# Altium integrated library Microchip Mixed Signal.IntLib: 1399 symbols (part 34 of 39)
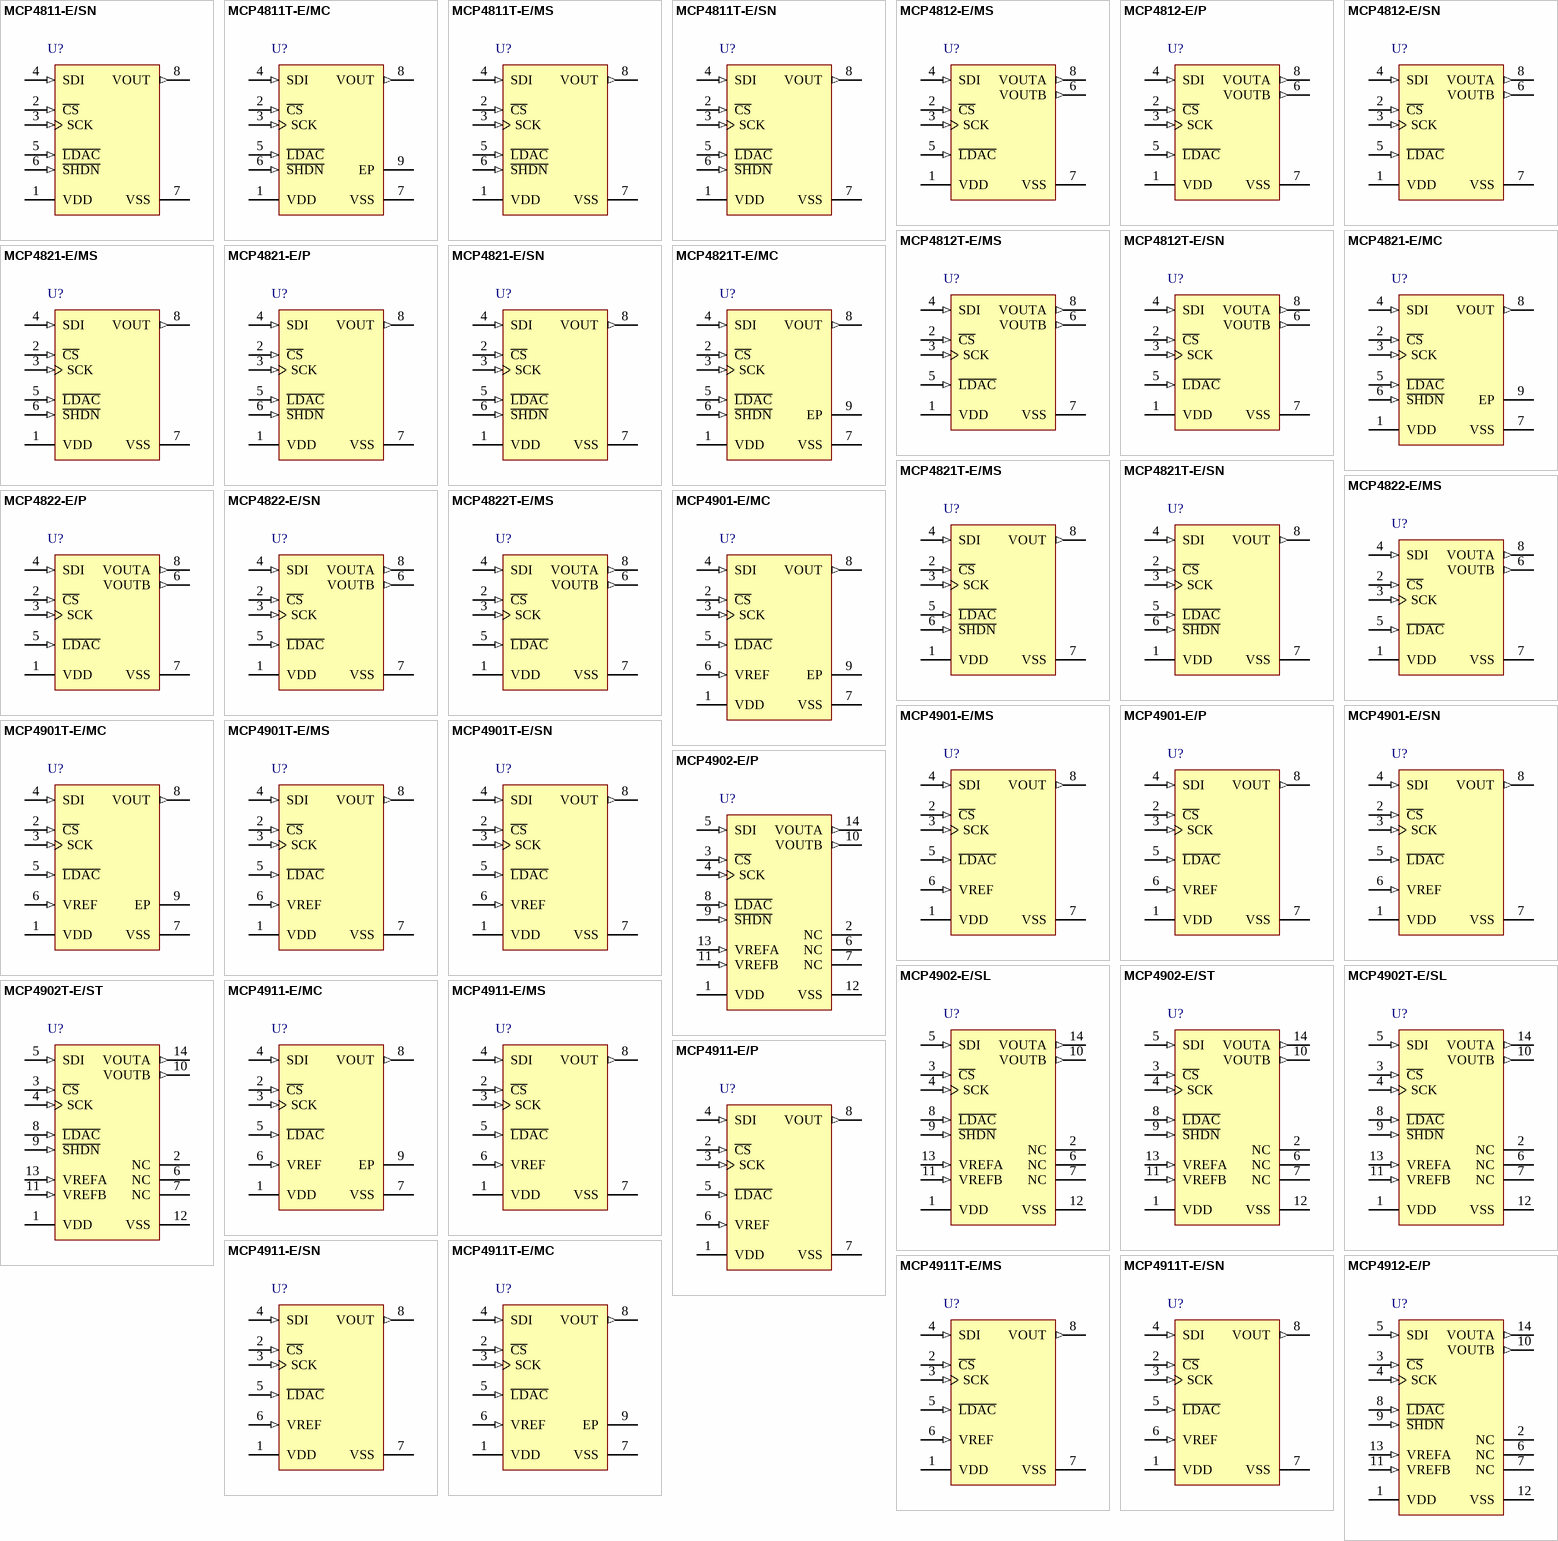
[diagram p77: symbols MCP4811-E/SN to MCP4912-E/P]

## MCP4911T-E/SN
designator U?
10-Bit DAC with SPI Interface, 8-Pin SOIC 150mil, Extended Temperature, Tape and Reel; Manufacturer: Microchip; PartNumber: MCP4911T-E/SN; DatasheetVersion: revA, Apr-2010; PackageVersion: revBB, Aug-2009; PackageReference: SOIC-SN8; PackageDescription: 8-Lead Plastic Small Outline (SN) - Narrow, 3.90mm Body [SOIC]; Supplier 1: Digi-Key; Supplier Part Number 1: MCP4911T-E/SN-ND; Supplier 2: Mouser; Supplier Part Number 2: 579-MCP4911T-E/SN; Mounting Technology: Surface Mount; Code_JEDEC: MS-012; Code_IPC: SOIC127P600-8; ComponentLink1Description: Manufacturer URL; ComponentLink1URL: http://www.microchip.com/; ComponentLink2Description: Datasheet; ComponentLink2URL: http://ww1.microchip.com/downloads/en/DeviceDoc/22248a.pdf; ComponentLink3Description: Package Specification; ComponentLink3URL: http://www.microchip.com/stellent/groups/techpub_sg/documents/packagingspec/en012702.pdf
footprint SOIC-SN8_N (SOIC, 8-Leads, Body 4.9x3.8mm, Pitch 1.27mm, IPC Medium Density)
footprint SOIC-SN8_L (SOIC, 8-Leads, Body 4.9x3.8mm, Pitch 1.27mm, IPC High Density)
footprint SOIC-SN8_M (SOIC, 8-Leads, Body 4.9x3.8mm, Pitch 1.27mm, IPC Low Density)
pins: 1 VDD (power), 2 ~{CS} (in), 3 SCK (in), 4 SDI (in), 5 ~{LDAC} (in), 6 VREF (in), 7 VSS (power), 8 VOUT (out)

## MCP4912-E/P
designator U?
10-Bit DAC with SPI Interface, 14-Pin PDIP, Extended Temperature; Manufacturer: Microchip; PartNumber: MCP4912-E/P; DatasheetVersion: revA, Apr-2010; PackageVersion: revBB, Aug-2009; PackageReference: PDIP300-P14; PackageDescription: 14-Lead Plastic Dual In-Line (P) - 300 mil Body [PDIP]; Supplier 1: Digi-Key; Supplier Part Number 1: MCP4912-E/P-ND; Supplier 2: Farnell; Supplier Part Number 2: 1815951; Supplier 3: Newark; Supplier Part Number 3: 53R0107; Supplier 4: Mouser; Supplier Part Number 4: 579-MCP4912-E/P; Mounting Technology: Through Hole; ComponentLink1Description: Manufacturer URL; ComponentLink1URL: http://www.microchip.com/; ComponentLink2Description: Datasheet; ComponentLink2URL: http://ww1.microchip.com/downloads/en/DeviceDoc/22250A.pdf; ComponentLink3Description: Package Specification; ComponentLink3URL: http://www.microchip.com/stellent/groups/techpub_sg/documents/packagingspec/en012702.pdf
footprint PDIP300-P14 (DIP, 14-Leads, Row Spacing 7.62mm, Pitch 2.54mm, Body 19.2x6.6mm)
pins: 1 VDD (power), 2 NC, 3 ~{CS} (in), 4 SCK (in), 5 SDI (in), 6 NC, 7 NC, 8 ~{LDAC} (in), 9 ~{SHDN} (in), 10 VOUTB (out), 11 VREFB (in), 12 VSS (power), 13 VREFA (in), 14 VOUTA (out)

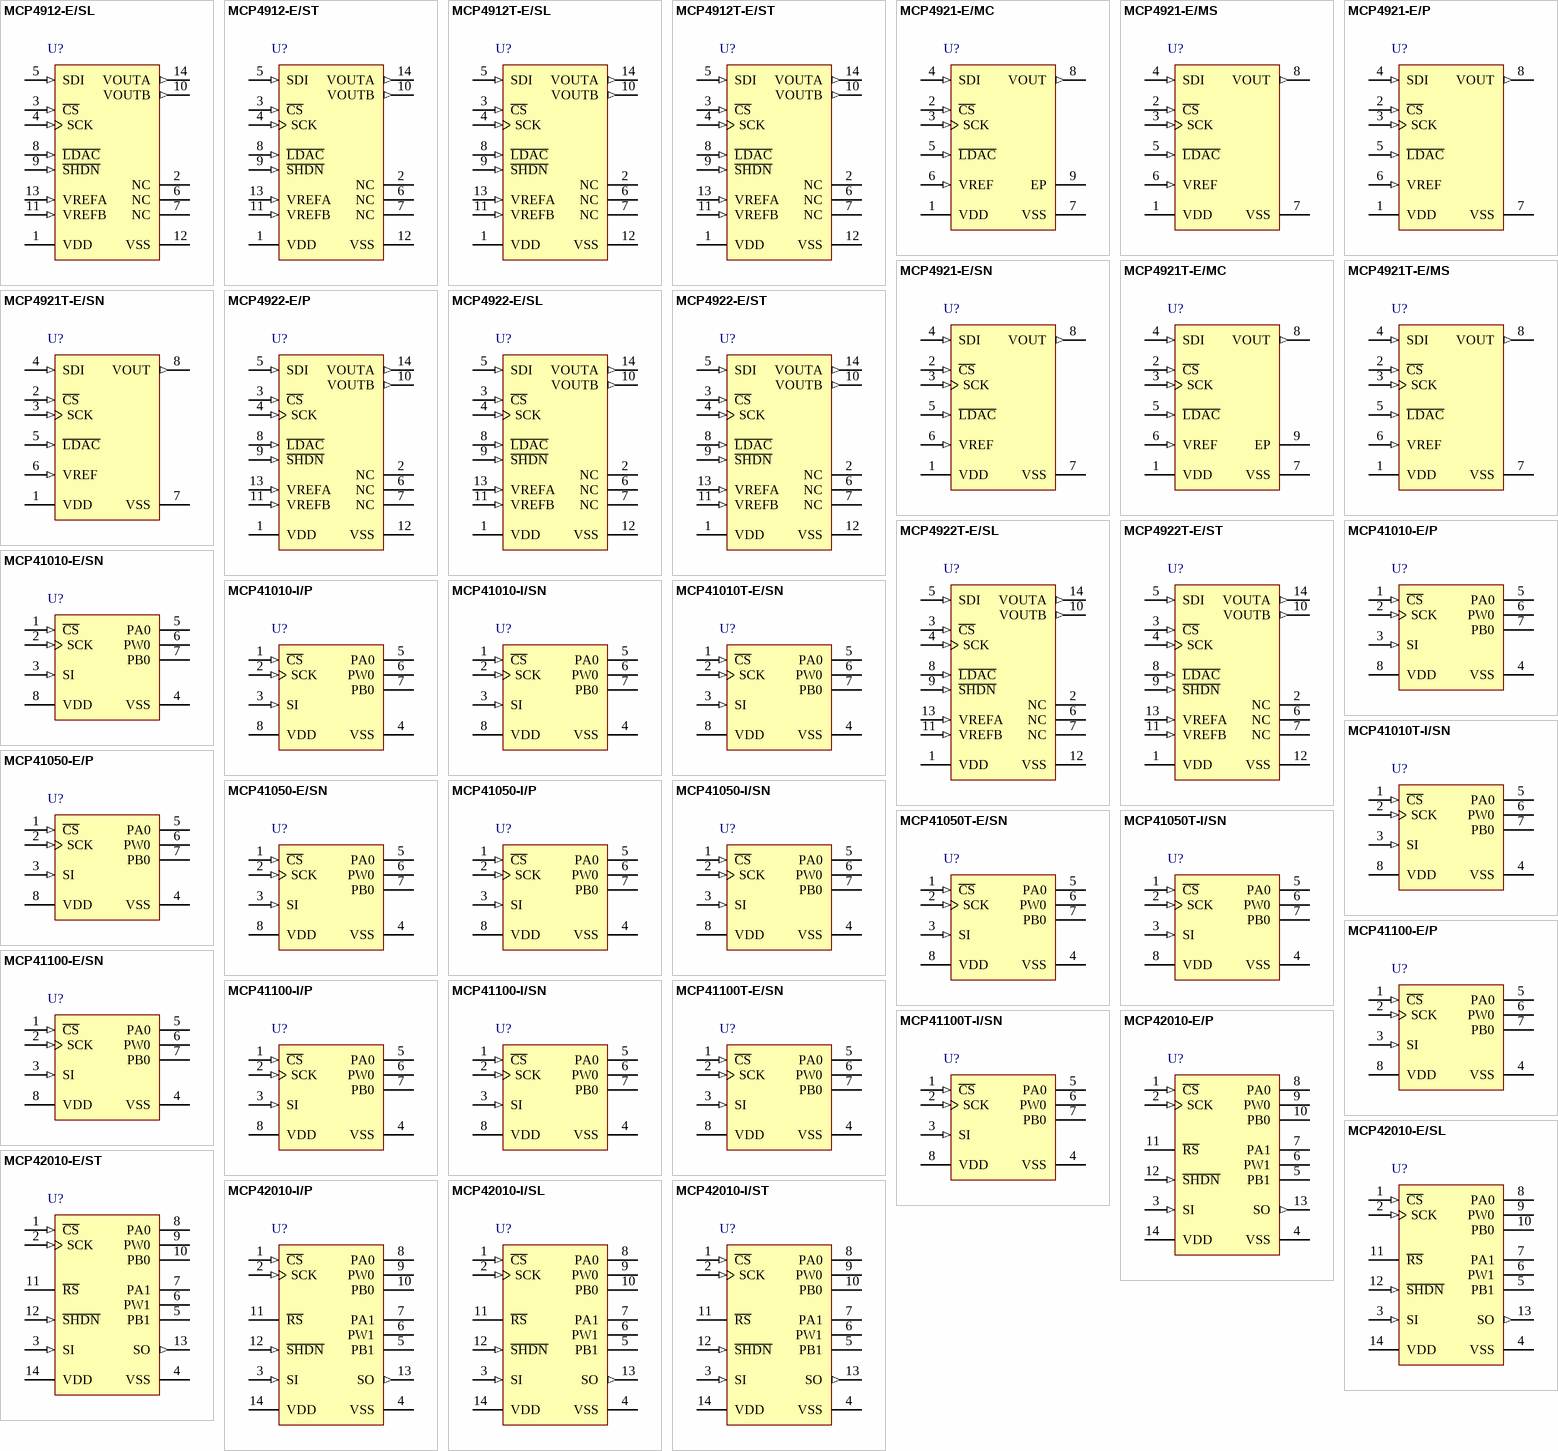
[diagram p35: symbols MCP4912-E/SL to MCP42010-I/ST]

## MCP4912-E/SL
designator U?
10-Bit DAC with SPI Interface, 14-Pin SOIC 150mil, Extended Temperature; Manufacturer: Microchip; PartNumber: MCP4912-E/SL; DatasheetVersion: revA, Apr-2010; PackageVersion: revBB, Aug-2009; PackageReference: SOIC-SL14; PackageDescription: 14-Lead Plastic Small Outline (SL) - Narrow, 3.90mm Body [SOIC]; Supplier 1: Digi-Key; Supplier Part Number 1: MCP4912-E/SL-ND; Supplier 2: Farnell; Supplier Part Number 2: 1834914; Supplier 3: Newark; Supplier Part Number 3: 53R0108; Supplier 4: Mouser; Supplier Part Number 4: 579-MCP4912-E/SL; Mounting Technology: Surface Mount; Code_JEDEC: MS-012-AB; Code_IPC: SOIC127P600-14; ComponentLink1Description: Manufacturer URL; ComponentLink1URL: http://www.microchip.com/; ComponentLink2Description: Datasheet; ComponentLink2URL: http://ww1.microchip.com/downloads/en/DeviceDoc/22250A.pdf; ComponentLink3Description: Package Specification; ComponentLink3URL: http://www.microchip.com/stellent/groups/techpub_sg/documents/packagingspec/en012702.pdf
footprint SOIC-SL14_N (SOIC, 14-Leads, Body 8.7x3.9mm, Pitch 1.27mm, IPC Medium Density)
footprint SOIC-SL14_L (SOIC, 14-Leads, Body 8.7x3.9mm, Pitch 1.27mm, IPC High Density)
footprint SOIC-SL14_M (SOIC, 14-Leads, Body 8.7x3.9mm, Pitch 1.27mm, IPC Low Density)
pins: 1 VDD (power), 2 NC, 3 ~{CS} (in), 4 SCK (in), 5 SDI (in), 6 NC, 7 NC, 8 ~{LDAC} (in), 9 ~{SHDN} (in), 10 VOUTB (out), 11 VREFB (in), 12 VSS (power), 13 VREFA (in), 14 VOUTA (out)

## MCP4912-E/ST
designator U?
10-Bit DAC with SPI Interface, 14-Pin TSSOP, Extended Temperature; Manufacturer: Microchip; PartNumber: MCP4912-E/ST; DatasheetVersion: revA, Apr-2010; PackageVersion: revBB, Aug-2009; PackageReference: TSSOP-ST14; PackageDescription: 14-Lead Plastic Thin Shrink Small Outline (ST) - 4.4mm Body [TSSOP]; Supplier 1: Digi-Key; Supplier Part Number 1: MCP4912-E/ST-ND; Supplier 2: Farnell; Supplier Part Number 2: 1815952; Supplier 3: Newark; Supplier Part Number 3: 53R0109; Supplier 4: Mouser; Supplier Part Number 4: 579-MCP4912-E/ST; Mounting Technology: Surface Mount; ComponentLink1Description: Manufacturer URL; ComponentLink1URL: http://www.microchip.com/; ComponentLink2Description: Datasheet; ComponentLink2URL: http://ww1.microchip.com/downloads/en/DeviceDoc/22250A.pdf; ComponentLink3Description: Package Specification; ComponentLink3URL: http://www.microchip.com/stellent/groups/techpub_sg/documents/packagingspec/en012702.pdf
footprint TSSOP-ST14_N (TSOP, 14-Leads, Body 5x4.4mm, Pitch 0.65mm, IPC Medium Density)
footprint TSSOP-ST14_L (TSOP, 14-Leads, Body 5x4.4mm, Pitch 0.65mm, IPC High Density)
footprint TSSOP-ST14_M (TSOP, 14-Leads, Body 5x4.4mm, Pitch 0.65mm, IPC Low Density)
pins: 1 VDD (power), 2 NC, 3 ~{CS} (in), 4 SCK (in), 5 SDI (in), 6 NC, 7 NC, 8 ~{LDAC} (in), 9 ~{SHDN} (in), 10 VOUTB (out), 11 VREFB (in), 12 VSS (power), 13 VREFA (in), 14 VOUTA (out)

## MCP4912T-E/SL
designator U?
10-Bit DAC with SPI Interface, 14-Pin SOIC 150mil, Extended Temperature, Tape and Reel; Manufacturer: Microchip; PartNumber: MCP4912T-E/SL; DatasheetVersion: revA, Apr-2010; PackageVersion: revBB, Aug-2009; PackageReference: SOIC-SL14; PackageDescription: 14-Lead Plastic Small Outline (SL) - Narrow, 3.90mm Body [SOIC]; Supplier 1: Digi-Key; Supplier Part Number 1: MCP4912T-E/SL-ND; Supplier 2: Mouser; Supplier Part Number 2: 579-MCP4912T-E/SL; Mounting Technology: Surface Mount; Code_JEDEC: MS-012-AB; Code_IPC: SOIC127P600-14; ComponentLink1Description: Manufacturer URL; ComponentLink1URL: http://www.microchip.com/; ComponentLink2Description: Datasheet; ComponentLink2URL: http://ww1.microchip.com/downloads/en/DeviceDoc/22250A.pdf; ComponentLink3Description: Package Specification; ComponentLink3URL: http://www.microchip.com/stellent/groups/techpub_sg/documents/packagingspec/en012702.pdf
footprint SOIC-SL14_N (SOIC, 14-Leads, Body 8.7x3.9mm, Pitch 1.27mm, IPC Medium Density)
footprint SOIC-SL14_L (SOIC, 14-Leads, Body 8.7x3.9mm, Pitch 1.27mm, IPC High Density)
footprint SOIC-SL14_M (SOIC, 14-Leads, Body 8.7x3.9mm, Pitch 1.27mm, IPC Low Density)
pins: 1 VDD (power), 2 NC, 3 ~{CS} (in), 4 SCK (in), 5 SDI (in), 6 NC, 7 NC, 8 ~{LDAC} (in), 9 ~{SHDN} (in), 10 VOUTB (out), 11 VREFB (in), 12 VSS (power), 13 VREFA (in), 14 VOUTA (out)

## MCP4912T-E/ST
designator U?
10-Bit DAC with SPI Interface, 14-Pin TSSOP, Extended Temperature, Tape and Reel; Manufacturer: Microchip; PartNumber: MCP4912T-E/ST; DatasheetVersion: revA, Apr-2010; PackageVersion: revBB, Aug-2009; PackageReference: TSSOP-ST14; PackageDescription: 14-Lead Plastic Thin Shrink Small Outline (ST) - 4.4mm Body [TSSOP]; Supplier 1: Digi-Key; Supplier Part Number 1: MCP4912T-E/ST-ND; Supplier 2: Mouser; Supplier Part Number 2: 579-MCP4912T-E/ST; Mounting Technology: Surface Mount; ComponentLink1Description: Manufacturer URL; ComponentLink1URL: http://www.microchip.com/; ComponentLink2Description: Datasheet; ComponentLink2URL: http://ww1.microchip.com/downloads/en/DeviceDoc/22250A.pdf; ComponentLink3Description: Package Specification; ComponentLink3URL: http://www.microchip.com/stellent/groups/techpub_sg/documents/packagingspec/en012702.pdf
footprint TSSOP-ST14_N (TSOP, 14-Leads, Body 5x4.4mm, Pitch 0.65mm, IPC Medium Density)
footprint TSSOP-ST14_L (TSOP, 14-Leads, Body 5x4.4mm, Pitch 0.65mm, IPC High Density)
footprint TSSOP-ST14_M (TSOP, 14-Leads, Body 5x4.4mm, Pitch 0.65mm, IPC Low Density)
pins: 1 VDD (power), 2 NC, 3 ~{CS} (in), 4 SCK (in), 5 SDI (in), 6 NC, 7 NC, 8 ~{LDAC} (in), 9 ~{SHDN} (in), 10 VOUTB (out), 11 VREFB (in), 12 VSS (power), 13 VREFA (in), 14 VOUTA (out)

## MCP4921-E/MC
designator U?
12-Bit DAC with SPI Interface, 8-Pin DFN, Extended Temperature; Manufacturer: Microchip; PartNumber: MCP4921-E/MC; DatasheetVersion: revA, Apr-2010; PackageVersion: revBB, Aug-2009; PackageReference: DFN-MC8; PackageDescription: 8-Lead Plastic Dual Flat, No Lead Package (MC) - 2x3x0.9mm Body [DFN]; Supplier 1: Digi-Key; Supplier Part Number 1: MCP4921-E/MC-ND; Supplier 2: Mouser; Supplier Part Number 2: 579-MCP4921-E/MC; Mounting Technology: Surface Mount; ComponentLink1Description: Manufacturer URL; ComponentLink1URL: http://www.microchip.com/; ComponentLink2Description: Datasheet; ComponentLink2URL: http://ww1.microchip.com/downloads/en/DeviceDoc/22248a.pdf; ComponentLink3Description: Package Specification; ComponentLink3URL: http://www.microchip.com/stellent/groups/techpub_sg/documents/packagingspec/en012702.pdf
footprint DFN-MC8 (SON, 8-Leads, Body 2x3mm, Pitch 0.5mm, Microchip Recommended)
pins: 1 VDD (power), 2 ~{CS} (in), 3 SCK (in), 4 SDI (in), 5 ~{LDAC} (in), 6 VREF (in), 7 VSS (power), 8 VOUT (out), 9 EP

## MCP4921-E/MS
designator U?
12-Bit DAC with SPI Interface, 8-Pin MSOP, Extended Temperature; Manufacturer: Microchip; PartNumber: MCP4921-E/MS; DatasheetVersion: revA, Apr-2010; PackageVersion: revBB, Aug-2009; PackageReference: MSOP-MS8; PackageDescription: 8-Lead Plastic Micro Small Outline Package (MS) [MSOP]; Supplier 1: Digi-Key; Supplier Part Number 1: MCP4921-E/MS-ND; Supplier 2: Newark; Supplier Part Number 2: 08J8742; Supplier 3: Mouser; Supplier Part Number 3: 579-MCP4921-E/MS; Mounting Technology: Surface Mount; ComponentLink1Description: Manufacturer URL; ComponentLink1URL: http://www.microchip.com/; ComponentLink2Description: Datasheet; ComponentLink2URL: http://ww1.microchip.com/downloads/en/DeviceDoc/22248a.pdf; ComponentLink3Description: Package Specification; ComponentLink3URL: http://www.microchip.com/stellent/groups/techpub_sg/documents/packagingspec/en012702.pdf
footprint MSOP-MS8_N (TSOP, 8-Leads, Body 3x3mm, Pitch 0.65mm, IPC Medium Density)
footprint MSOP-MS8_L (TSOP, 8-Leads, Body 3x3mm, Pitch 0.65mm, IPC High Density)
footprint MSOP-MS8_M (TSOP, 8-Leads, Body 3x3mm, Pitch 0.65mm, IPC Low Density)
pins: 1 VDD (power), 2 ~{CS} (in), 3 SCK (in), 4 SDI (in), 5 ~{LDAC} (in), 6 VREF (in), 7 VSS (power), 8 VOUT (out)

## MCP4921-E/P
designator U?
12-Bit DAC with SPI Interface, 8-Pin PDIP, Extended Temperature; Manufacturer: Microchip; PartNumber: MCP4921-E/P; DatasheetVersion: revA, Apr-2010; PackageVersion: revBB, Aug-2009; PackageReference: PDIP300-P8; PackageDescription: 8-Lead Plastic Dual In-Line (P) - 300 mil Body [PDIP]; Supplier 1: Digi-Key; Supplier Part Number 1: MCP4921-E/P-ND; Supplier 2: Newark; Supplier Part Number 2: 08J8743; Supplier 3: Mouser; Supplier Part Number 3: 579-MCP4921-E/P; Mounting Technology: Through Hole; Code_JEDEC: MS-001; ComponentLink1Description: Manufacturer URL; ComponentLink1URL: http://www.microchip.com/; ComponentLink2Description: Datasheet; ComponentLink2URL: http://ww1.microchip.com/downloads/en/DeviceDoc/22248a.pdf; ComponentLink3Description: Package Specification; ComponentLink3URL: http://www.microchip.com/stellent/groups/techpub_sg/documents/packagingspec/en012702.pdf
footprint PDIP300-P8 (DIP, 8-Leads, Row Spacing 7.62mm, Pitch 2.54mm, Body 9.5x6.6mm)
pins: 1 VDD (power), 2 ~{CS} (in), 3 SCK (in), 4 SDI (in), 5 ~{LDAC} (in), 6 VREF (in), 7 VSS (power), 8 VOUT (out)

## MCP4921-E/SN
designator U?
12-Bit DAC with SPI Interface, 8-Pin SOIC 150mil, Extended Temperature; Manufacturer: Microchip; PartNumber: MCP4921-E/SN; DatasheetVersion: revA, Apr-2010; PackageVersion: revBB, Aug-2009; PackageReference: SOIC-SN8; PackageDescription: 8-Lead Plastic Small Outline (SN) - Narrow, 3.90mm Body [SOIC]; Supplier 1: Digi-Key; Supplier Part Number 1: MCP4921-E/SN-ND; Supplier 2: Newark; Supplier Part Number 2: 08J8744; Supplier 3: Mouser; Supplier Part Number 3: 579-MCP4921-E/SN; Mounting Technology: Surface Mount; Code_JEDEC: MS-012; Code_IPC: SOIC127P600-8; ComponentLink1Description: Manufacturer URL; ComponentLink1URL: http://www.microchip.com/; ComponentLink2Description: Datasheet; ComponentLink2URL: http://ww1.microchip.com/downloads/en/DeviceDoc/22248a.pdf; ComponentLink3Description: Package Specification; ComponentLink3URL: http://www.microchip.com/stellent/groups/techpub_sg/documents/packagingspec/en012702.pdf
footprint SOIC-SN8_N (SOIC, 8-Leads, Body 4.9x3.8mm, Pitch 1.27mm, IPC Medium Density)
footprint SOIC-SN8_L (SOIC, 8-Leads, Body 4.9x3.8mm, Pitch 1.27mm, IPC High Density)
footprint SOIC-SN8_M (SOIC, 8-Leads, Body 4.9x3.8mm, Pitch 1.27mm, IPC Low Density)
pins: 1 VDD (power), 2 ~{CS} (in), 3 SCK (in), 4 SDI (in), 5 ~{LDAC} (in), 6 VREF (in), 7 VSS (power), 8 VOUT (out)

## MCP4921T-E/MC
designator U?
12-Bit DAC with SPI Interface, 8-Pin DFN, Extended Temperature, Tape and Reel; Manufacturer: Microchip; PartNumber: MCP4921T-E/MC; DatasheetVersion: revA, Apr-2010; PackageVersion: revBB, Aug-2009; PackageReference: DFN-MC8; PackageDescription: 8-Lead Plastic Dual Flat, No Lead Package (MC) - 2x3x0.9mm Body [DFN]; Supplier 1: Digi-Key; Supplier Part Number 1: MCP4921T-E/MC-ND; Supplier 2: Mouser; Supplier Part Number 2: 579-MCP4921T-E/MC; Mounting Technology: Surface Mount; ComponentLink1Description: Manufacturer URL; ComponentLink1URL: http://www.microchip.com/; ComponentLink2Description: Datasheet; ComponentLink2URL: http://ww1.microchip.com/downloads/en/DeviceDoc/22248a.pdf; ComponentLink3Description: Package Specification; ComponentLink3URL: http://www.microchip.com/stellent/groups/techpub_sg/documents/packagingspec/en012702.pdf
footprint DFN-MC8 (SON, 8-Leads, Body 2x3mm, Pitch 0.5mm, Microchip Recommended)
pins: 1 VDD (power), 2 ~{CS} (in), 3 SCK (in), 4 SDI (in), 5 ~{LDAC} (in), 6 VREF (in), 7 VSS (power), 8 VOUT (out), 9 EP

## MCP4921T-E/MS
designator U?
12-Bit DAC with SPI Interface, 8-Pin MSOP, Extended Temperature, Tape and Reel; Manufacturer: Microchip; PartNumber: MCP4921T-E/MS; DatasheetVersion: revA, Apr-2010; PackageVersion: revBB, Aug-2009; PackageReference: MSOP-MS8; PackageDescription: 8-Lead Plastic Micro Small Outline Package (MS) [MSOP]; Supplier 1: Digi-Key; Supplier Part Number 1: MCP4921T-E/MSTR-ND; Supplier 2: Digi-Key; Supplier Part Number 2: MCP4921T-E/MSCT-ND; Supplier 3: Digi-Key; Supplier Part Number 3: MCP4921T-E/MSDKR-ND; Supplier 4: Newark; Supplier Part Number 4: 08J8745; Supplier 5: Mouser; Supplier Part Number 5: 579-MCP4921T-E/MS; Mounting Technology: Surface Mount; ComponentLink1Description: Manufacturer URL; ComponentLink1URL: http://www.microchip.com/; ComponentLink2Description: Datasheet; ComponentLink2URL: http://ww1.microchip.com/downloads/en/DeviceDoc/22248a.pdf; ComponentLink3Description: Package Specification; ComponentLink3URL: http://www.microchip.com/stellent/groups/techpub_sg/documents/packagingspec/en012702.pdf
footprint MSOP-MS8_N (TSOP, 8-Leads, Body 3x3mm, Pitch 0.65mm, IPC Medium Density)
footprint MSOP-MS8_L (TSOP, 8-Leads, Body 3x3mm, Pitch 0.65mm, IPC High Density)
footprint MSOP-MS8_M (TSOP, 8-Leads, Body 3x3mm, Pitch 0.65mm, IPC Low Density)
pins: 1 VDD (power), 2 ~{CS} (in), 3 SCK (in), 4 SDI (in), 5 ~{LDAC} (in), 6 VREF (in), 7 VSS (power), 8 VOUT (out)

## MCP4921T-E/SN
designator U?
12-Bit DAC with SPI Interface, 8-Pin SOIC 150mil, Extended Temperature, Tape and Reel; Manufacturer: Microchip; PartNumber: MCP4921T-E/SN; DatasheetVersion: revA, Apr-2010; PackageVersion: revBB, Aug-2009; PackageReference: SOIC-SN8; PackageDescription: 8-Lead Plastic Small Outline (SN) - Narrow, 3.90mm Body [SOIC]; Supplier 1: Digi-Key; Supplier Part Number 1: MCP4921T-E/SNTR-ND; Supplier 2: Digi-Key; Supplier Part Number 2: MCP4921T-E/SNCT-ND; Supplier 3: Digi-Key; Supplier Part Number 3: MCP4921T-E/SNDKR-ND; Supplier 4: Newark; Supplier Part Number 4: 08J8746; Supplier 5: Mouser; Supplier Part Number 5: 579-MCP4921T-E/SN; Mounting Technology: Surface Mount; Code_JEDEC: MS-012; Code_IPC: SOIC127P600-8; ComponentLink1Description: Manufacturer URL; ComponentLink1URL: http://www.microchip.com/; ComponentLink2Description: Datasheet; ComponentLink2URL: http://ww1.microchip.com/downloads/en/DeviceDoc/22248a.pdf; ComponentLink3Description: Package Specification; ComponentLink3URL: http://www.microchip.com/stellent/groups/techpub_sg/documents/packagingspec/en012702.pdf
footprint SOIC-SN8_N (SOIC, 8-Leads, Body 4.9x3.8mm, Pitch 1.27mm, IPC Medium Density)
footprint SOIC-SN8_L (SOIC, 8-Leads, Body 4.9x3.8mm, Pitch 1.27mm, IPC High Density)
footprint SOIC-SN8_M (SOIC, 8-Leads, Body 4.9x3.8mm, Pitch 1.27mm, IPC Low Density)
pins: 1 VDD (power), 2 ~{CS} (in), 3 SCK (in), 4 SDI (in), 5 ~{LDAC} (in), 6 VREF (in), 7 VSS (power), 8 VOUT (out)

## MCP4922-E/P
designator U?
12-Bit DAC with SPI Interface, 14-Pin PDIP, Extended Temperature; Manufacturer: Microchip; PartNumber: MCP4922-E/P; DatasheetVersion: revA, Apr-2010; PackageVersion: revBB, Aug-2009; PackageReference: PDIP300-P14; PackageDescription: 14-Lead Plastic Dual In-Line (P) - 300 mil Body [PDIP]; Supplier 1: Digi-Key; Supplier Part Number 1: MCP4922-E/P-ND; Supplier 2: Farnell; Supplier Part Number 2: 1292244; Supplier 3: Newark; Supplier Part Number 3: 61K2950; Supplier 4: Mouser; Supplier Part Number 4: 579-MCP4922-E/P; Mounting Technology: Through Hole; ComponentLink1Description: Manufacturer URL; ComponentLink1URL: http://www.microchip.com/; ComponentLink2Description: Datasheet; ComponentLink2URL: http://ww1.microchip.com/downloads/en/DeviceDoc/22250A.pdf; ComponentLink3Description: Package Specification; ComponentLink3URL: http://www.microchip.com/stellent/groups/techpub_sg/documents/packagingspec/en012702.pdf
footprint PDIP300-P14 (DIP, 14-Leads, Row Spacing 7.62mm, Pitch 2.54mm, Body 19.2x6.6mm)
pins: 1 VDD (power), 2 NC, 3 ~{CS} (in), 4 SCK (in), 5 SDI (in), 6 NC, 7 NC, 8 ~{LDAC} (in), 9 ~{SHDN} (in), 10 VOUTB (out), 11 VREFB (in), 12 VSS (power), 13 VREFA (in), 14 VOUTA (out)

## MCP4922-E/SL
designator U?
12-Bit DAC with SPI Interface, 14-Pin SOIC 150mil, Extended Temperature; Manufacturer: Microchip; PartNumber: MCP4922-E/SL; DatasheetVersion: revA, Apr-2010; PackageVersion: revBB, Aug-2009; PackageReference: SOIC-SL14; PackageDescription: 14-Lead Plastic Small Outline (SL) - Narrow, 3.90mm Body [SOIC]; Supplier 1: Digi-Key; Supplier Part Number 1: MCP4922-E/SL-ND; Supplier 2: Newark; Supplier Part Number 2: 08J8748; Supplier 3: Mouser; Supplier Part Number 3: 579-MCP4922-E/SL; Mounting Technology: Surface Mount; Code_JEDEC: MS-012-AB; Code_IPC: SOIC127P600-14; ComponentLink1Description: Manufacturer URL; ComponentLink1URL: http://www.microchip.com/; ComponentLink2Description: Datasheet; ComponentLink2URL: http://ww1.microchip.com/downloads/en/DeviceDoc/22250A.pdf; ComponentLink3Description: Package Specification; ComponentLink3URL: http://www.microchip.com/stellent/groups/techpub_sg/documents/packagingspec/en012702.pdf
footprint SOIC-SL14_N (SOIC, 14-Leads, Body 8.7x3.9mm, Pitch 1.27mm, IPC Medium Density)
footprint SOIC-SL14_L (SOIC, 14-Leads, Body 8.7x3.9mm, Pitch 1.27mm, IPC High Density)
footprint SOIC-SL14_M (SOIC, 14-Leads, Body 8.7x3.9mm, Pitch 1.27mm, IPC Low Density)
pins: 1 VDD (power), 2 NC, 3 ~{CS} (in), 4 SCK (in), 5 SDI (in), 6 NC, 7 NC, 8 ~{LDAC} (in), 9 ~{SHDN} (in), 10 VOUTB (out), 11 VREFB (in), 12 VSS (power), 13 VREFA (in), 14 VOUTA (out)

## MCP4922-E/ST
designator U?
12-Bit DAC with SPI Interface, 14-Pin TSSOP, Extended Temperature; Manufacturer: Microchip; PartNumber: MCP4922-E/ST; DatasheetVersion: revA, Apr-2010; PackageVersion: revBB, Aug-2009; PackageReference: TSSOP-ST14; PackageDescription: 14-Lead Plastic Thin Shrink Small Outline (ST) - 4.4mm Body [TSSOP]; Supplier 1: Digi-Key; Supplier Part Number 1: MCP4922-E/ST-ND; Supplier 2: Newark; Supplier Part Number 2: 08J8749; Supplier 3: Mouser; Supplier Part Number 3: 579-MCP4922-E/ST; Mounting Technology: Surface Mount; ComponentLink1Description: Manufacturer URL; ComponentLink1URL: http://www.microchip.com/; ComponentLink2Description: Datasheet; ComponentLink2URL: http://ww1.microchip.com/downloads/en/DeviceDoc/22250A.pdf; ComponentLink3Description: Package Specification; ComponentLink3URL: http://www.microchip.com/stellent/groups/techpub_sg/documents/packagingspec/en012702.pdf
footprint TSSOP-ST14_N (TSOP, 14-Leads, Body 5x4.4mm, Pitch 0.65mm, IPC Medium Density)
footprint TSSOP-ST14_L (TSOP, 14-Leads, Body 5x4.4mm, Pitch 0.65mm, IPC High Density)
footprint TSSOP-ST14_M (TSOP, 14-Leads, Body 5x4.4mm, Pitch 0.65mm, IPC Low Density)
pins: 1 VDD (power), 2 NC, 3 ~{CS} (in), 4 SCK (in), 5 SDI (in), 6 NC, 7 NC, 8 ~{LDAC} (in), 9 ~{SHDN} (in), 10 VOUTB (out), 11 VREFB (in), 12 VSS (power), 13 VREFA (in), 14 VOUTA (out)

## MCP4922T-E/SL
designator U?
12-Bit DAC with SPI Interface, 14-Pin SOIC 150mil, Extended Temperature, Tape and Reel; Manufacturer: Microchip; PartNumber: MCP4922T-E/SL; DatasheetVersion: revA, Apr-2010; PackageVersion: revBB, Aug-2009; PackageReference: SOIC-SL14; PackageDescription: 14-Lead Plastic Small Outline (SL) - Narrow, 3.90mm Body [SOIC]; Supplier 1: Digi-Key; Supplier Part Number 1: MCP4922T-E/SLTR-ND; Supplier 2: Digi-Key; Supplier Part Number 2: MCP4922T-E/SLCT-ND; Supplier 3: Digi-Key; Supplier Part Number 3: MCP4922T-E/SLDKR-ND; Supplier 4: Newark; Supplier Part Number 4: 08J8750; Supplier 5: Mouser; Supplier Part Number 5: 579-MCP4922T-E/SL; Mounting Technology: Surface Mount; Code_JEDEC: MS-012-AB; Code_IPC: SOIC127P600-14; ComponentLink1Description: Manufacturer URL; ComponentLink1URL: http://www.microchip.com/; ComponentLink2Description: Datasheet; ComponentLink2URL: http://ww1.microchip.com/downloads/en/DeviceDoc/22250A.pdf; ComponentLink3Description: Package Specification; ComponentLink3URL: http://www.microchip.com/stellent/groups/techpub_sg/documents/packagingspec/en012702.pdf
footprint SOIC-SL14_N (SOIC, 14-Leads, Body 8.7x3.9mm, Pitch 1.27mm, IPC Medium Density)
footprint SOIC-SL14_L (SOIC, 14-Leads, Body 8.7x3.9mm, Pitch 1.27mm, IPC High Density)
footprint SOIC-SL14_M (SOIC, 14-Leads, Body 8.7x3.9mm, Pitch 1.27mm, IPC Low Density)
pins: 1 VDD (power), 2 NC, 3 ~{CS} (in), 4 SCK (in), 5 SDI (in), 6 NC, 7 NC, 8 ~{LDAC} (in), 9 ~{SHDN} (in), 10 VOUTB (out), 11 VREFB (in), 12 VSS (power), 13 VREFA (in), 14 VOUTA (out)

## MCP4922T-E/ST
designator U?
12-Bit DAC with SPI Interface, 14-Pin TSSOP, Extended Temperature, Tape and Reel; Manufacturer: Microchip; PartNumber: MCP4922T-E/ST; DatasheetVersion: revA, Apr-2010; PackageVersion: revBB, Aug-2009; PackageReference: TSSOP-ST14; PackageDescription: 14-Lead Plastic Thin Shrink Small Outline (ST) - 4.4mm Body [TSSOP]; Supplier 1: Digi-Key; Supplier Part Number 1: MCP4922T-E/STTR-ND; Supplier 2: Digi-Key; Supplier Part Number 2: MCP4922T-E/STCT-ND; Supplier 3: Digi-Key; Supplier Part Number 3: MCP4922T-E/STDKR-ND; Supplier 4: Newark; Supplier Part Number 4: 08J8751; Supplier 5: Mouser; Supplier Part Number 5: 579-MCP4922T-E/ST; Mounting Technology: Surface Mount; ComponentLink1Description: Manufacturer URL; ComponentLink1URL: http://www.microchip.com/; ComponentLink2Description: Datasheet; ComponentLink2URL: http://ww1.microchip.com/downloads/en/DeviceDoc/22250A.pdf; ComponentLink3Description: Package Specification; ComponentLink3URL: http://www.microchip.com/stellent/groups/techpub_sg/documents/packagingspec/en012702.pdf
footprint TSSOP-ST14_N (TSOP, 14-Leads, Body 5x4.4mm, Pitch 0.65mm, IPC Medium Density)
footprint TSSOP-ST14_L (TSOP, 14-Leads, Body 5x4.4mm, Pitch 0.65mm, IPC High Density)
footprint TSSOP-ST14_M (TSOP, 14-Leads, Body 5x4.4mm, Pitch 0.65mm, IPC Low Density)
pins: 1 VDD (power), 2 NC, 3 ~{CS} (in), 4 SCK (in), 5 SDI (in), 6 NC, 7 NC, 8 ~{LDAC} (in), 9 ~{SHDN} (in), 10 VOUTB (out), 11 VREFB (in), 12 VSS (power), 13 VREFA (in), 14 VOUTA (out)

## MCP41010-E/P
designator U?
Single/Dual Digital Potentiometer with SPI Interface, 8-Pin PDIP, Extended Temperature; Manufacturer: Microchip; PartNumber: MCP41010-E/P; DatasheetVersion: Jul-2003; PackageVersion: revBB, Aug-2009; PackageReference: PDIP300-P8; PackageDescription: 8-Lead Plastic Dual In-Line (P) - 300 mil Body [PDIP]; Supplier 1: Digi-Key; Supplier Part Number 1: MCP41010-E/P-ND; Supplier 2: Farnell; Supplier Part Number 2: 1332108; Supplier 3: Newark; Supplier Part Number 3: 88H9826; Supplier 4: Mouser; Supplier Part Number 4: 579-MCP41010-E/P; Mounting Technology: Through Hole; Code_JEDEC: MS-001; ComponentLink1Description: Manufacturer URL; ComponentLink1URL: http://www.microchip.com/; ComponentLink2Description: Datasheet; ComponentLink2URL: http://ww1.microchip.com/downloads/en/DeviceDoc/11195c.pdf; ComponentLink3Description: Package Specification; ComponentLink3URL: http://www.microchip.com/stellent/groups/techpub_sg/documents/packagingspec/en012702.pdf
footprint PDIP300-P8 (DIP, 8-Leads, Row Spacing 7.62mm, Pitch 2.54mm, Body 9.5x6.6mm)
pins: 1 ~{CS} (in), 2 SCK (in), 3 SI (in), 4 VSS (power), 5 PA0, 6 PW0, 7 PB0, 8 VDD (power)

## MCP41010-E/SN
designator U?
Single/Dual Digital Potentiometer with SPI Interface, 8-Pin SOIC 150mil, Extended Temperature; Manufacturer: Microchip; PartNumber: MCP41010-E/SN; DatasheetVersion: Jul-2003; PackageVersion: revBB, Aug-2009; PackageReference: SOIC-SN8; PackageDescription: 8-Lead Plastic Small Outline (SN) - Narrow, 3.90mm Body [SOIC]; Supplier 1: Digi-Key; Supplier Part Number 1: MCP41010-E/SN-ND; Supplier 2: Farnell; Supplier Part Number 2: 1332109; Supplier 3: Newark; Supplier Part Number 3: 34M7457; Supplier 4: Newark; Supplier Part Number 4: 88H9827; Supplier 5: Mouser; Supplier Part Number 5: 579-MCP41010-E/SN; Mounting Technology: Surface Mount; Code_JEDEC: MS-012; Code_IPC: SOIC127P600-8; ComponentLink1Description: Manufacturer URL; ComponentLink1URL: http://www.microchip.com/; ComponentLink2Description: Datasheet; ComponentLink2URL: http://ww1.microchip.com/downloads/en/DeviceDoc/11195c.pdf; ComponentLink3Description: Package Specification; ComponentLink3URL: http://www.microchip.com/stellent/groups/techpub_sg/documents/packagingspec/en012702.pdf
footprint SOIC-SN8_N (SOIC, 8-Leads, Body 4.9x3.8mm, Pitch 1.27mm, IPC Medium Density)
footprint SOIC-SN8_L (SOIC, 8-Leads, Body 4.9x3.8mm, Pitch 1.27mm, IPC High Density)
footprint SOIC-SN8_M (SOIC, 8-Leads, Body 4.9x3.8mm, Pitch 1.27mm, IPC Low Density)
pins: 1 ~{CS} (in), 2 SCK (in), 3 SI (in), 4 VSS (power), 5 PA0, 6 PW0, 7 PB0, 8 VDD (power)

## MCP41010-I/P
designator U?
Single/Dual Digital Potentiometer with SPI Interface, 8-Pin PDIP, Industrial Temperature; Manufacturer: Microchip; PartNumber: MCP41010-I/P; DatasheetVersion: Jul-2003; PackageVersion: revBB, Aug-2009; PackageReference: PDIP300-P8; PackageDescription: 8-Lead Plastic Dual In-Line (P) - 300 mil Body [PDIP]; Supplier 1: Digi-Key; Supplier Part Number 1: MCP41010-I/P-ND; Supplier 2: Farnell; Supplier Part Number 2: 1292242; Supplier 3: Newark; Supplier Part Number 3: 69K7607; Supplier 4: Mouser; Supplier Part Number 4: 579-MCP41010-I/P; Mounting Technology: Through Hole; Code_JEDEC: MS-001; ComponentLink1Description: Manufacturer URL; ComponentLink1URL: http://www.microchip.com/; ComponentLink2Description: Datasheet; ComponentLink2URL: http://ww1.microchip.com/downloads/en/DeviceDoc/11195c.pdf; ComponentLink3Description: Package Specification; ComponentLink3URL: http://www.microchip.com/stellent/groups/techpub_sg/documents/packagingspec/en012702.pdf
footprint PDIP300-P8 (DIP, 8-Leads, Row Spacing 7.62mm, Pitch 2.54mm, Body 9.5x6.6mm)
pins: 1 ~{CS} (in), 2 SCK (in), 3 SI (in), 4 VSS (power), 5 PA0, 6 PW0, 7 PB0, 8 VDD (power)

## MCP41010-I/SN
designator U?
Single/Dual Digital Potentiometer with SPI Interface, 8-Pin SOIC 150mil, Industrial Temperature; Manufacturer: Microchip; PartNumber: MCP41010-I/SN; DatasheetVersion: Jul-2003; PackageVersion: revBB, Aug-2009; PackageReference: SOIC-SN8; PackageDescription: 8-Lead Plastic Small Outline (SN) - Narrow, 3.90mm Body [SOIC]; Supplier 1: Digi-Key; Supplier Part Number 1: MCP41010-I/SN-ND; Supplier 2: Farnell; Supplier Part Number 2: 9758607; Supplier 3: Newark; Supplier Part Number 3: 61K2949; Supplier 4: Mouser; Supplier Part Number 4: 579-MCP41010-I/SN; Mounting Technology: Surface Mount; Code_JEDEC: MS-012; Code_IPC: SOIC127P600-8; ComponentLink1Description: Manufacturer URL; ComponentLink1URL: http://www.microchip.com/; ComponentLink2Description: Datasheet; ComponentLink2URL: http://ww1.microchip.com/downloads/en/DeviceDoc/11195c.pdf; ComponentLink3Description: Package Specification; ComponentLink3URL: http://www.microchip.com/stellent/groups/techpub_sg/documents/packagingspec/en012702.pdf
footprint SOIC-SN8_N (SOIC, 8-Leads, Body 4.9x3.8mm, Pitch 1.27mm, IPC Medium Density)
footprint SOIC-SN8_L (SOIC, 8-Leads, Body 4.9x3.8mm, Pitch 1.27mm, IPC High Density)
footprint SOIC-SN8_M (SOIC, 8-Leads, Body 4.9x3.8mm, Pitch 1.27mm, IPC Low Density)
pins: 1 ~{CS} (in), 2 SCK (in), 3 SI (in), 4 VSS (power), 5 PA0, 6 PW0, 7 PB0, 8 VDD (power)

## MCP41010T-E/SN
designator U?
Single/Dual Digital Potentiometer with SPI Interface, 8-Pin SOIC 150mil, Extended Temperature, Tape and Reel; Manufacturer: Microchip; PartNumber: MCP41010T-E/SN; DatasheetVersion: Jul-2003; PackageVersion: revBB, Aug-2009; PackageReference: SOIC-SN8; PackageDescription: 8-Lead Plastic Small Outline (SN) - Narrow, 3.90mm Body [SOIC]; Supplier 1: Digi-Key; Supplier Part Number 1: MCP41010T-E/SN-ND; Supplier 2: Mouser; Supplier Part Number 2: 579-MCP41010T-E/SN; Mounting Technology: Surface Mount; Code_JEDEC: MS-012; Code_IPC: SOIC127P600-8; ComponentLink1Description: Manufacturer URL; ComponentLink1URL: http://www.microchip.com/; ComponentLink2Description: Datasheet; ComponentLink2URL: http://ww1.microchip.com/downloads/en/DeviceDoc/11195c.pdf; ComponentLink3Description: Package Specification; ComponentLink3URL: http://www.microchip.com/stellent/groups/techpub_sg/documents/packagingspec/en012702.pdf
footprint SOIC-SN8_N (SOIC, 8-Leads, Body 4.9x3.8mm, Pitch 1.27mm, IPC Medium Density)
footprint SOIC-SN8_L (SOIC, 8-Leads, Body 4.9x3.8mm, Pitch 1.27mm, IPC High Density)
footprint SOIC-SN8_M (SOIC, 8-Leads, Body 4.9x3.8mm, Pitch 1.27mm, IPC Low Density)
pins: 1 ~{CS} (in), 2 SCK (in), 3 SI (in), 4 VSS (power), 5 PA0, 6 PW0, 7 PB0, 8 VDD (power)

## MCP41010T-I/SN
designator U?
Single/Dual Digital Potentiometer with SPI Interface, 8-Pin SOIC 150mil, Industrial Temperature, Tape and Reel; Manufacturer: Microchip; PartNumber: MCP41010T-I/SN; DatasheetVersion: Jul-2003; PackageVersion: revBB, Aug-2009; PackageReference: SOIC-SN8; PackageDescription: 8-Lead Plastic Small Outline (SN) - Narrow, 3.90mm Body [SOIC]; Supplier 1: Digi-Key; Supplier Part Number 1: MCP41010T-I/SN-ND; Supplier 2: Newark; Supplier Part Number 2: 92C4191; Supplier 3: Mouser; Supplier Part Number 3: 579-MCP41010T-I/SN; Mounting Technology: Surface Mount; Code_JEDEC: MS-012; Code_IPC: SOIC127P600-8; ComponentLink1Description: Manufacturer URL; ComponentLink1URL: http://www.microchip.com/; ComponentLink2Description: Datasheet; ComponentLink2URL: http://ww1.microchip.com/downloads/en/DeviceDoc/11195c.pdf; ComponentLink3Description: Package Specification; ComponentLink3URL: http://www.microchip.com/stellent/groups/techpub_sg/documents/packagingspec/en012702.pdf
footprint SOIC-SN8_N (SOIC, 8-Leads, Body 4.9x3.8mm, Pitch 1.27mm, IPC Medium Density)
footprint SOIC-SN8_L (SOIC, 8-Leads, Body 4.9x3.8mm, Pitch 1.27mm, IPC High Density)
footprint SOIC-SN8_M (SOIC, 8-Leads, Body 4.9x3.8mm, Pitch 1.27mm, IPC Low Density)
pins: 1 ~{CS} (in), 2 SCK (in), 3 SI (in), 4 VSS (power), 5 PA0, 6 PW0, 7 PB0, 8 VDD (power)

## MCP41050-E/P
designator U?
Single/Dual Digital Potentiometer with SPI Interface, 8-Pin PDIP, Extended Temperature; Manufacturer: Microchip; PartNumber: MCP41050-E/P; DatasheetVersion: Jul-2003; PackageVersion: revBB, Aug-2009; PackageReference: PDIP300-P8; PackageDescription: 8-Lead Plastic Dual In-Line (P) - 300 mil Body [PDIP]; Supplier 1: Digi-Key; Supplier Part Number 1: MCP41050-E/P-ND; Supplier 2: Newark; Supplier Part Number 2: 88H9829; Supplier 3: Mouser; Supplier Part Number 3: 579-MCP41050-E/P; Mounting Technology: Through Hole; Code_JEDEC: MS-001; ComponentLink1Description: Manufacturer URL; ComponentLink1URL: http://www.microchip.com/; ComponentLink2Description: Datasheet; ComponentLink2URL: http://ww1.microchip.com/downloads/en/DeviceDoc/11195c.pdf; ComponentLink3Description: Package Specification; ComponentLink3URL: http://www.microchip.com/stellent/groups/techpub_sg/documents/packagingspec/en012702.pdf
footprint PDIP300-P8 (DIP, 8-Leads, Row Spacing 7.62mm, Pitch 2.54mm, Body 9.5x6.6mm)
pins: 1 ~{CS} (in), 2 SCK (in), 3 SI (in), 4 VSS (power), 5 PA0, 6 PW0, 7 PB0, 8 VDD (power)

## MCP41050-E/SN
designator U?
Single/Dual Digital Potentiometer with SPI Interface, 8-Pin SOIC 150mil, Extended Temperature; Manufacturer: Microchip; PartNumber: MCP41050-E/SN; DatasheetVersion: Jul-2003; PackageVersion: revBB, Aug-2009; PackageReference: SOIC-SN8; PackageDescription: 8-Lead Plastic Small Outline (SN) - Narrow, 3.90mm Body [SOIC]; Supplier 1: Digi-Key; Supplier Part Number 1: MCP41050-E/SN-ND; Supplier 2: Farnell; Supplier Part Number 2: 1439403; Supplier 3: Newark; Supplier Part Number 3: 58M8912; Supplier 4: Mouser; Supplier Part Number 4: 579-MCP41050-E/SN; Mounting Technology: Surface Mount; Code_JEDEC: MS-012; Code_IPC: SOIC127P600-8; ComponentLink1Description: Manufacturer URL; ComponentLink1URL: http://www.microchip.com/; ComponentLink2Description: Datasheet; ComponentLink2URL: http://ww1.microchip.com/downloads/en/DeviceDoc/11195c.pdf; ComponentLink3Description: Package Specification; ComponentLink3URL: http://www.microchip.com/stellent/groups/techpub_sg/documents/packagingspec/en012702.pdf
footprint SOIC-SN8_N (SOIC, 8-Leads, Body 4.9x3.8mm, Pitch 1.27mm, IPC Medium Density)
footprint SOIC-SN8_L (SOIC, 8-Leads, Body 4.9x3.8mm, Pitch 1.27mm, IPC High Density)
footprint SOIC-SN8_M (SOIC, 8-Leads, Body 4.9x3.8mm, Pitch 1.27mm, IPC Low Density)
pins: 1 ~{CS} (in), 2 SCK (in), 3 SI (in), 4 VSS (power), 5 PA0, 6 PW0, 7 PB0, 8 VDD (power)

## MCP41050-I/P
designator U?
Single/Dual Digital Potentiometer with SPI Interface, 8-Pin PDIP, Industrial Temperature; Manufacturer: Microchip; PartNumber: MCP41050-I/P; DatasheetVersion: Jul-2003; PackageVersion: revBB, Aug-2009; PackageReference: PDIP300-P8; PackageDescription: 8-Lead Plastic Dual In-Line (P) - 300 mil Body [PDIP]; Supplier 1: Digi-Key; Supplier Part Number 1: MCP41050-I/P-ND; Supplier 2: Farnell; Supplier Part Number 2: 1292243; Supplier 3: Newark; Supplier Part Number 3: 59K0227; Supplier 4: Mouser; Supplier Part Number 4: 579-MCP41050-I/P; Mounting Technology: Through Hole; Code_JEDEC: MS-001; ComponentLink1Description: Manufacturer URL; ComponentLink1URL: http://www.microchip.com/; ComponentLink2Description: Datasheet; ComponentLink2URL: http://ww1.microchip.com/downloads/en/DeviceDoc/11195c.pdf; ComponentLink3Description: Package Specification; ComponentLink3URL: http://www.microchip.com/stellent/groups/techpub_sg/documents/packagingspec/en012702.pdf
footprint PDIP300-P8 (DIP, 8-Leads, Row Spacing 7.62mm, Pitch 2.54mm, Body 9.5x6.6mm)
pins: 1 ~{CS} (in), 2 SCK (in), 3 SI (in), 4 VSS (power), 5 PA0, 6 PW0, 7 PB0, 8 VDD (power)

## MCP41050-I/SN
designator U?
Single/Dual Digital Potentiometer with SPI Interface, 8-Pin SOIC 150mil, Industrial Temperature; Manufacturer: Microchip; PartNumber: MCP41050-I/SN; DatasheetVersion: Jul-2003; PackageVersion: revBB, Aug-2009; PackageReference: SOIC-SN8; PackageDescription: 8-Lead Plastic Small Outline (SN) - Narrow, 3.90mm Body [SOIC]; Supplier 1: Digi-Key; Supplier Part Number 1: MCP41050-I/SN-ND; Supplier 2: Farnell; Supplier Part Number 2: 1439759; Supplier 3: Newark; Supplier Part Number 3: 24C6508; Supplier 4: Mouser; Supplier Part Number 4: 579-MCP41050-I/SN; Mounting Technology: Surface Mount; Code_JEDEC: MS-012; Code_IPC: SOIC127P600-8; ComponentLink1Description: Manufacturer URL; ComponentLink1URL: http://www.microchip.com/; ComponentLink2Description: Datasheet; ComponentLink2URL: http://ww1.microchip.com/downloads/en/DeviceDoc/11195c.pdf; ComponentLink3Description: Package Specification; ComponentLink3URL: http://www.microchip.com/stellent/groups/techpub_sg/documents/packagingspec/en012702.pdf
footprint SOIC-SN8_N (SOIC, 8-Leads, Body 4.9x3.8mm, Pitch 1.27mm, IPC Medium Density)
footprint SOIC-SN8_L (SOIC, 8-Leads, Body 4.9x3.8mm, Pitch 1.27mm, IPC High Density)
footprint SOIC-SN8_M (SOIC, 8-Leads, Body 4.9x3.8mm, Pitch 1.27mm, IPC Low Density)
pins: 1 ~{CS} (in), 2 SCK (in), 3 SI (in), 4 VSS (power), 5 PA0, 6 PW0, 7 PB0, 8 VDD (power)

## MCP41050T-E/SN
designator U?
Single/Dual Digital Potentiometer with SPI Interface, 8-Pin SOIC 150mil, Extended Temperature, Tape and Reel; Manufacturer: Microchip; PartNumber: MCP41050T-E/SN; DatasheetVersion: Jul-2003; PackageVersion: revBB, Aug-2009; PackageReference: SOIC-SN8; PackageDescription: 8-Lead Plastic Small Outline (SN) - Narrow, 3.90mm Body [SOIC]; Supplier 1: Digi-Key; Supplier Part Number 1: MCP41050T-E/SN-ND; Supplier 2: Mouser; Supplier Part Number 2: 579-MCP41050T-E/SN; Mounting Technology: Surface Mount; Code_JEDEC: MS-012; Code_IPC: SOIC127P600-8; ComponentLink1Description: Manufacturer URL; ComponentLink1URL: http://www.microchip.com/; ComponentLink2Description: Datasheet; ComponentLink2URL: http://ww1.microchip.com/downloads/en/DeviceDoc/11195c.pdf; ComponentLink3Description: Package Specification; ComponentLink3URL: http://www.microchip.com/stellent/groups/techpub_sg/documents/packagingspec/en012702.pdf
footprint SOIC-SN8_N (SOIC, 8-Leads, Body 4.9x3.8mm, Pitch 1.27mm, IPC Medium Density)
footprint SOIC-SN8_L (SOIC, 8-Leads, Body 4.9x3.8mm, Pitch 1.27mm, IPC High Density)
footprint SOIC-SN8_M (SOIC, 8-Leads, Body 4.9x3.8mm, Pitch 1.27mm, IPC Low Density)
pins: 1 ~{CS} (in), 2 SCK (in), 3 SI (in), 4 VSS (power), 5 PA0, 6 PW0, 7 PB0, 8 VDD (power)

## MCP41050T-I/SN
designator U?
Single/Dual Digital Potentiometer with SPI Interface, 8-Pin SOIC 150mil, Industrial Temperature, Tape and Reel; Manufacturer: Microchip; PartNumber: MCP41050T-I/SN; DatasheetVersion: Jul-2003; PackageVersion: revBB, Aug-2009; PackageReference: SOIC-SN8; PackageDescription: 8-Lead Plastic Small Outline (SN) - Narrow, 3.90mm Body [SOIC]; Supplier 1: Digi-Key; Supplier Part Number 1: MCP41050T-I/SN-ND; Supplier 2: Mouser; Supplier Part Number 2: 579-MCP41050T-I/SN; Mounting Technology: Surface Mount; Code_JEDEC: MS-012; Code_IPC: SOIC127P600-8; ComponentLink1Description: Manufacturer URL; ComponentLink1URL: http://www.microchip.com/; ComponentLink2Description: Datasheet; ComponentLink2URL: http://ww1.microchip.com/downloads/en/DeviceDoc/11195c.pdf; ComponentLink3Description: Package Specification; ComponentLink3URL: http://www.microchip.com/stellent/groups/techpub_sg/documents/packagingspec/en012702.pdf
footprint SOIC-SN8_N (SOIC, 8-Leads, Body 4.9x3.8mm, Pitch 1.27mm, IPC Medium Density)
footprint SOIC-SN8_L (SOIC, 8-Leads, Body 4.9x3.8mm, Pitch 1.27mm, IPC High Density)
footprint SOIC-SN8_M (SOIC, 8-Leads, Body 4.9x3.8mm, Pitch 1.27mm, IPC Low Density)
pins: 1 ~{CS} (in), 2 SCK (in), 3 SI (in), 4 VSS (power), 5 PA0, 6 PW0, 7 PB0, 8 VDD (power)

## MCP41100-E/P
designator U?
Single/Dual Digital Potentiometer with SPI Interface, 8-Pin PDIP, Extended Temperature; Manufacturer: Microchip; PartNumber: MCP41100-E/P; DatasheetVersion: Jul-2003; PackageVersion: revBB, Aug-2009; PackageReference: PDIP300-P8; PackageDescription: 8-Lead Plastic Dual In-Line (P) - 300 mil Body [PDIP]; Supplier 1: Digi-Key; Supplier Part Number 1: MCP41100-E/P-ND; Supplier 2: Farnell; Supplier Part Number 2: 1439404; Supplier 3: Newark; Supplier Part Number 3: 58M8914; Supplier 4: Mouser; Supplier Part Number 4: 579-MCP41100-E/P; Mounting Technology: Through Hole; Code_JEDEC: MS-001; ComponentLink1Description: Manufacturer URL; ComponentLink1URL: http://www.microchip.com/; ComponentLink2Description: Datasheet; ComponentLink2URL: http://ww1.microchip.com/downloads/en/DeviceDoc/11195c.pdf; ComponentLink3Description: Package Specification; ComponentLink3URL: http://www.microchip.com/stellent/groups/techpub_sg/documents/packagingspec/en012702.pdf
footprint PDIP300-P8 (DIP, 8-Leads, Row Spacing 7.62mm, Pitch 2.54mm, Body 9.5x6.6mm)
pins: 1 ~{CS} (in), 2 SCK (in), 3 SI (in), 4 VSS (power), 5 PA0, 6 PW0, 7 PB0, 8 VDD (power)

## MCP41100-E/SN
designator U?
Single/Dual Digital Potentiometer with SPI Interface, 8-Pin SOIC 150mil, Extended Temperature; Manufacturer: Microchip; PartNumber: MCP41100-E/SN; DatasheetVersion: Jul-2003; PackageVersion: revBB, Aug-2009; PackageReference: SOIC-SN8; PackageDescription: 8-Lead Plastic Small Outline (SN) - Narrow, 3.90mm Body [SOIC]; Supplier 1: Digi-Key; Supplier Part Number 1: MCP41100-E/SN-ND; Supplier 2: Farnell; Supplier Part Number 2: 1439405; Supplier 3: Newark; Supplier Part Number 3: 58M8915; Supplier 4: Mouser; Supplier Part Number 4: 579-MCP41100-E/SN; Mounting Technology: Surface Mount; Code_JEDEC: MS-012; Code_IPC: SOIC127P600-8; ComponentLink1Description: Manufacturer URL; ComponentLink1URL: http://www.microchip.com/; ComponentLink2Description: Datasheet; ComponentLink2URL: http://ww1.microchip.com/downloads/en/DeviceDoc/11195c.pdf; ComponentLink3Description: Package Specification; ComponentLink3URL: http://www.microchip.com/stellent/groups/techpub_sg/documents/packagingspec/en012702.pdf
footprint SOIC-SN8_N (SOIC, 8-Leads, Body 4.9x3.8mm, Pitch 1.27mm, IPC Medium Density)
footprint SOIC-SN8_L (SOIC, 8-Leads, Body 4.9x3.8mm, Pitch 1.27mm, IPC High Density)
footprint SOIC-SN8_M (SOIC, 8-Leads, Body 4.9x3.8mm, Pitch 1.27mm, IPC Low Density)
pins: 1 ~{CS} (in), 2 SCK (in), 3 SI (in), 4 VSS (power), 5 PA0, 6 PW0, 7 PB0, 8 VDD (power)

## MCP41100-I/P
designator U?
Single/Dual Digital Potentiometer with SPI Interface, 8-Pin PDIP, Industrial Temperature; Manufacturer: Microchip; PartNumber: MCP41100-I/P; DatasheetVersion: Jul-2003; PackageVersion: revBB, Aug-2009; PackageReference: PDIP300-P8; PackageDescription: 8-Lead Plastic Dual In-Line (P) - 300 mil Body [PDIP]; Supplier 1: Digi-Key; Supplier Part Number 1: MCP41100-I/P-ND; Supplier 2: Farnell; Supplier Part Number 2: 1557412; Supplier 3: Newark; Supplier Part Number 3: 96K3725; Supplier 4: Mouser; Supplier Part Number 4: 579-MCP41100-I/P; Mounting Technology: Through Hole; Code_JEDEC: MS-001; ComponentLink1Description: Manufacturer URL; ComponentLink1URL: http://www.microchip.com/; ComponentLink2Description: Datasheet; ComponentLink2URL: http://ww1.microchip.com/downloads/en/DeviceDoc/11195c.pdf; ComponentLink3Description: Package Specification; ComponentLink3URL: http://www.microchip.com/stellent/groups/techpub_sg/documents/packagingspec/en012702.pdf
footprint PDIP300-P8 (DIP, 8-Leads, Row Spacing 7.62mm, Pitch 2.54mm, Body 9.5x6.6mm)
pins: 1 ~{CS} (in), 2 SCK (in), 3 SI (in), 4 VSS (power), 5 PA0, 6 PW0, 7 PB0, 8 VDD (power)

## MCP41100-I/SN
designator U?
Single/Dual Digital Potentiometer with SPI Interface, 8-Pin SOIC 150mil, Industrial Temperature; Manufacturer: Microchip; PartNumber: MCP41100-I/SN; DatasheetVersion: Jul-2003; PackageVersion: revBB, Aug-2009; PackageReference: SOIC-SN8; PackageDescription: 8-Lead Plastic Small Outline (SN) - Narrow, 3.90mm Body [SOIC]; Supplier 1: Digi-Key; Supplier Part Number 1: MCP41100-I/SN-ND; Supplier 2: Farnell; Supplier Part Number 2: 1557424; Supplier 3: Newark; Supplier Part Number 3: 24C6510; Supplier 4: Mouser; Supplier Part Number 4: 579-MCP41100-I/SN; Mounting Technology: Surface Mount; Code_JEDEC: MS-012; Code_IPC: SOIC127P600-8; ComponentLink1Description: Manufacturer URL; ComponentLink1URL: http://www.microchip.com/; ComponentLink2Description: Datasheet; ComponentLink2URL: http://ww1.microchip.com/downloads/en/DeviceDoc/11195c.pdf; ComponentLink3Description: Package Specification; ComponentLink3URL: http://www.microchip.com/stellent/groups/techpub_sg/documents/packagingspec/en012702.pdf
footprint SOIC-SN8_N (SOIC, 8-Leads, Body 4.9x3.8mm, Pitch 1.27mm, IPC Medium Density)
footprint SOIC-SN8_L (SOIC, 8-Leads, Body 4.9x3.8mm, Pitch 1.27mm, IPC High Density)
footprint SOIC-SN8_M (SOIC, 8-Leads, Body 4.9x3.8mm, Pitch 1.27mm, IPC Low Density)
pins: 1 ~{CS} (in), 2 SCK (in), 3 SI (in), 4 VSS (power), 5 PA0, 6 PW0, 7 PB0, 8 VDD (power)

## MCP41100T-E/SN
designator U?
Single/Dual Digital Potentiometer with SPI Interface, 8-Pin SOIC 150mil, Extended Temperature, Tape and Reel; Manufacturer: Microchip; PartNumber: MCP41100T-E/SN; DatasheetVersion: Jul-2003; PackageVersion: revBB, Aug-2009; PackageReference: SOIC-SN8; PackageDescription: 8-Lead Plastic Small Outline (SN) - Narrow, 3.90mm Body [SOIC]; Supplier 1: Digi-Key; Supplier Part Number 1: MCP41100T-E/SN-ND; Supplier 2: Mouser; Supplier Part Number 2: 579-MCP41100T-E/SN; Mounting Technology: Surface Mount; Code_JEDEC: MS-012; Code_IPC: SOIC127P600-8; ComponentLink1Description: Manufacturer URL; ComponentLink1URL: http://www.microchip.com/; ComponentLink2Description: Datasheet; ComponentLink2URL: http://ww1.microchip.com/downloads/en/DeviceDoc/11195c.pdf; ComponentLink3Description: Package Specification; ComponentLink3URL: http://www.microchip.com/stellent/groups/techpub_sg/documents/packagingspec/en012702.pdf
footprint SOIC-SN8_N (SOIC, 8-Leads, Body 4.9x3.8mm, Pitch 1.27mm, IPC Medium Density)
footprint SOIC-SN8_L (SOIC, 8-Leads, Body 4.9x3.8mm, Pitch 1.27mm, IPC High Density)
footprint SOIC-SN8_M (SOIC, 8-Leads, Body 4.9x3.8mm, Pitch 1.27mm, IPC Low Density)
pins: 1 ~{CS} (in), 2 SCK (in), 3 SI (in), 4 VSS (power), 5 PA0, 6 PW0, 7 PB0, 8 VDD (power)

## MCP41100T-I/SN
designator U?
Single/Dual Digital Potentiometer with SPI Interface, 8-Pin SOIC 150mil, Industrial Temperature, Tape and Reel; Manufacturer: Microchip; PartNumber: MCP41100T-I/SN; DatasheetVersion: Jul-2003; PackageVersion: revBB, Aug-2009; PackageReference: SOIC-SN8; PackageDescription: 8-Lead Plastic Small Outline (SN) - Narrow, 3.90mm Body [SOIC]; Supplier 1: Digi-Key; Supplier Part Number 1: MCP41100T-I/SN-ND; Supplier 2: Newark; Supplier Part Number 2: 92C4193; Supplier 3: Mouser; Supplier Part Number 3: 579-MCP41100T-I/SN; Mounting Technology: Surface Mount; Code_JEDEC: MS-012; Code_IPC: SOIC127P600-8; ComponentLink1Description: Manufacturer URL; ComponentLink1URL: http://www.microchip.com/; ComponentLink2Description: Datasheet; ComponentLink2URL: http://ww1.microchip.com/downloads/en/DeviceDoc/11195c.pdf; ComponentLink3Description: Package Specification; ComponentLink3URL: http://www.microchip.com/stellent/groups/techpub_sg/documents/packagingspec/en012702.pdf
footprint SOIC-SN8_N (SOIC, 8-Leads, Body 4.9x3.8mm, Pitch 1.27mm, IPC Medium Density)
footprint SOIC-SN8_L (SOIC, 8-Leads, Body 4.9x3.8mm, Pitch 1.27mm, IPC High Density)
footprint SOIC-SN8_M (SOIC, 8-Leads, Body 4.9x3.8mm, Pitch 1.27mm, IPC Low Density)
pins: 1 ~{CS} (in), 2 SCK (in), 3 SI (in), 4 VSS (power), 5 PA0, 6 PW0, 7 PB0, 8 VDD (power)

## MCP42010-E/P
designator U?
Single/Dual Digital Potentiometer with SPI Interface, 14-Pin PDIP, Extended Temperature; Manufacturer: Microchip; PartNumber: MCP42010-E/P; DatasheetVersion: Jul-2003; PackageVersion: revBB, Aug-2009; PackageReference: PDIP300-P14; PackageDescription: 14-Lead Plastic Dual In-Line (P) - 300 mil Body [PDIP]; Supplier 1: Digi-Key; Supplier Part Number 1: MCP42010-E/P-ND; Supplier 2: Farnell; Supplier Part Number 2: 1332110; Supplier 3: Newark; Supplier Part Number 3: 34M7458; Supplier 4: Newark; Supplier Part Number 4: 88H9835; Supplier 5: Mouser; Supplier Part Number 5: 579-MCP42010-E/P; Mounting Technology: Through Hole; ComponentLink1Description: Manufacturer URL; ComponentLink1URL: http://www.microchip.com/; ComponentLink2Description: Datasheet; ComponentLink2URL: http://ww1.microchip.com/downloads/en/DeviceDoc/11195c.pdf; ComponentLink3Description: Package Specification; ComponentLink3URL: http://www.microchip.com/stellent/groups/techpub_sg/documents/packagingspec/en012702.pdf
footprint PDIP300-P14 (DIP, 14-Leads, Row Spacing 7.62mm, Pitch 2.54mm, Body 19.2x6.6mm)
pins: 1 ~{CS} (in), 2 SCK (in), 3 SI (in), 4 VSS (power), 5 PB1, 6 PW1, 7 PA1, 8 PA0, 9 PW0, 10 PB0, 11 ~{RS}, 12 ~{SHDN} (in), 13 SO (out), 14 VDD (power)

## MCP42010-E/SL
designator U?
Single/Dual Digital Potentiometer with SPI Interface, 14-Pin SOIC 150mil, Extended Temperature; Manufacturer: Microchip; PartNumber: MCP42010-E/SL; DatasheetVersion: Jul-2003; PackageVersion: revBB, Aug-2009; PackageReference: SOIC-SL14; PackageDescription: 14-Lead Plastic Small Outline (SL) - Narrow, 3.90mm Body [SOIC]; Supplier 1: Digi-Key; Supplier Part Number 1: MCP42010-E/SL-ND; Supplier 2: Farnell; Supplier Part Number 2: 1332111; Supplier 3: Newark; Supplier Part Number 3: 34M7459; Supplier 4: Mouser; Supplier Part Number 4: 579-MCP42010-E/SL; Mounting Technology: Surface Mount; Code_JEDEC: MS-012-AB; Code_IPC: SOIC127P600-14; ComponentLink1Description: Manufacturer URL; ComponentLink1URL: http://www.microchip.com/; ComponentLink2Description: Datasheet; ComponentLink2URL: http://ww1.microchip.com/downloads/en/DeviceDoc/11195c.pdf; ComponentLink3Description: Package Specification; ComponentLink3URL: http://www.microchip.com/stellent/groups/techpub_sg/documents/packagingspec/en012702.pdf
footprint SOIC-SL14_N (SOIC, 14-Leads, Body 8.7x3.9mm, Pitch 1.27mm, IPC Medium Density)
footprint SOIC-SL14_L (SOIC, 14-Leads, Body 8.7x3.9mm, Pitch 1.27mm, IPC High Density)
footprint SOIC-SL14_M (SOIC, 14-Leads, Body 8.7x3.9mm, Pitch 1.27mm, IPC Low Density)
pins: 1 ~{CS} (in), 2 SCK (in), 3 SI (in), 4 VSS (power), 5 PB1, 6 PW1, 7 PA1, 8 PA0, 9 PW0, 10 PB0, 11 ~{RS}, 12 ~{SHDN} (in), 13 SO (out), 14 VDD (power)